# Altium footprint library 10D-15.PcbLib: 1 footprints
Each footprint in its own frame and in the unit in brackets; x right, y up, seen from the top. Pads: shape width x height; smd on the part's side, far side on the other; paste and mask are expansions set on the pad; w line width, h text height; cw(c..) or ccw(c..) is an arc to the next point about the centre after c.
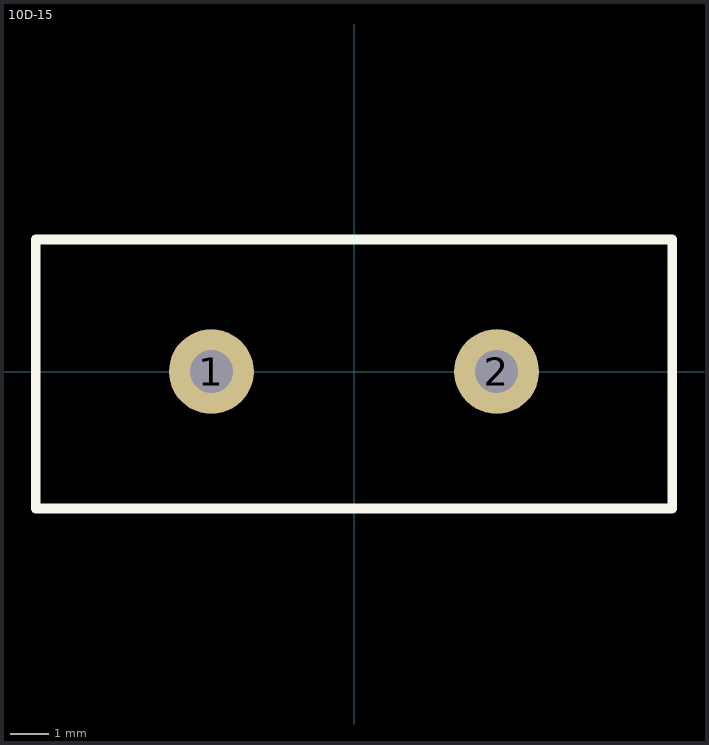
[diagram p0: the footprint, top view; thin cyan lines are the x and y axes]

## 10D-15 [mm]
pads (2):
  round 2.2 hole 1.12: 1(-3.7,0) 2(3.7,0)
Top Overlay:
  lines w0.254: -8.255,-3.556 8.255,-3.556 8.255,3.429 -8.255,3.429 -8.255,-3.556
3D body "Термистор .10D-15.STEP": height 21.24, standoff -1.25, extent -8.25,-3.5 8.25,3.5